# Altium schematic symbol library Misc Components.SchLib: 6 symbols
Pins are listed as number, name and electrical type; pins without a type are passive.

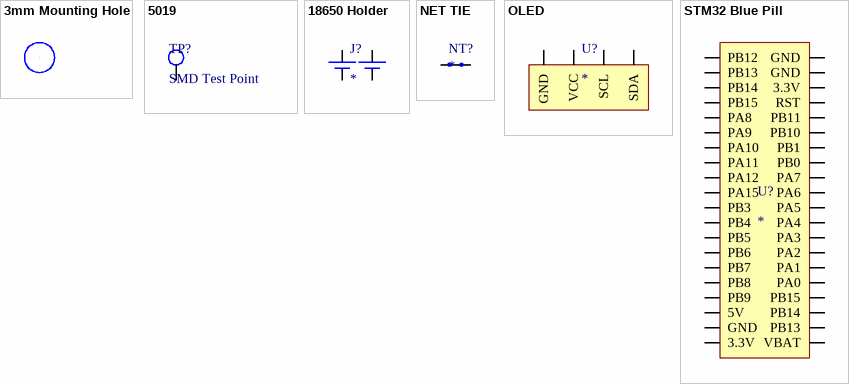
[diagram p0: symbols 3mm Mounting Hole to STM32 Blue Pill]

## 3mm Mounting Hole
designator M?  (value not drawn)
footprint 3mm Mounting Hole
pins: 1

## 5019
designator TP?, comment SMD Test Point
Phosphor Bronze Contact Miniature Silver Plated Surface Mount Test Points; Manufacturer: Keystone Electronics; Manufacturer Part Number: 5019; Supplier 1: Digi-Key; Supplier Part Number 1: 36-5019CT-ND; Stock 1: 396064; Pricing 1: 1 = 0.35000, 10 = 0.33100, 25 = 0.28400, 50 = 0.24120, 100 = 0.23180, 250 = 0.20812, 500 = 0.19866 (USD); RoHS: Yes; Mount: PCB,Surface Mount; Number of Pins: 1; Contact Plating: Silver; Material: Bronze; Contact Material: Bronze; Packaging: Tape and Reel; Package Quantity: 1; Termination: SMD/SMT; Height: 0.09inch; REACH SVHC: No SVHC; Lead Free: Lead Free; ComponentLink1URL: http://www.keyelco.com/userAssets/file/M60-2p61.pdf?src-supplier=Digi-Key; ComponentLink1Description: http://www.keyelco.com/userAssets/file/M60-2p61.pdf?src-supplier=Digi-Key; ComponentLink2URL: https://www.alliedelec.com/m/d/7cde97af424e5e26d7fd34350071af05.pdf?src-supplier=Allied+Electronics; ComponentLink2Description: https://www.alliedelec.com/m/d/7cde97af424e5e26d7fd34350071af05.pdf?src-supplier=Allied+Electronics; ComponentLink3URL: http://www.keyelco.com/userAssets/file/M60-2p61.pdf?src-supplier=Future+Electronics; ComponentLink3Description: http://www.keyelco.com/userAssets/file/M60-2p61.pdf?src-supplier=Future+Electronics; Category: Test and Measurement; ComponentLink4Description: Digikey; ComponentLink4URL: https://www.digikey.com/product-detail/en/keystone-electronics/5019/36-5019CT-ND/3907344
footprint 5019 Keystone SMT Test Point
pins: 1

## 18650 Holder
designator J?
2pos 18650 holder
footprint 18650 Holder
pins: 1 1+, 2 2+, 3 1-, 4 4-

## NET TIE
designator NT?
NetTie
footprint NETTIE
pins: 0, 1

## OLED
designator U?
I2C 5V OLED
footprint OLED
pins: 1 GND, 2 VCC, 3 SCL, 4 SDA

## STM32 Blue Pill
designator U?
footprint STM32 Blue Pill
pins: 1 PB12, 2 PB13, 3 PB14, 4 PB15, 5 PA8, 6 PA9, 7 PA10, 8 PA11, 9 PA12, 10 PA15, 11 PB3, 12 PB4, 13 PB5, 14 PB6, 15 PB7, 16 PB8, 17 PB9, 18 5V, 19 GND, 20 3.3V, 21 VBAT, 22 PB13, 23 PB14, 24 PB15, 25 PA0, 26 PA1, 27 PA2, 28 PA3, 29 PA4, 30 PA5, 31 PA6, 32 PA7, 33 PB0, 34 PB1, 35 PB10, 36 PB11, 37 RST, 38 3.3V, 39 GND, 40 GND